# Altium schematic symbol library Universal Device.SchLib: 2 symbols
Pins are listed as number, name and electrical type; pins without a type are passive.

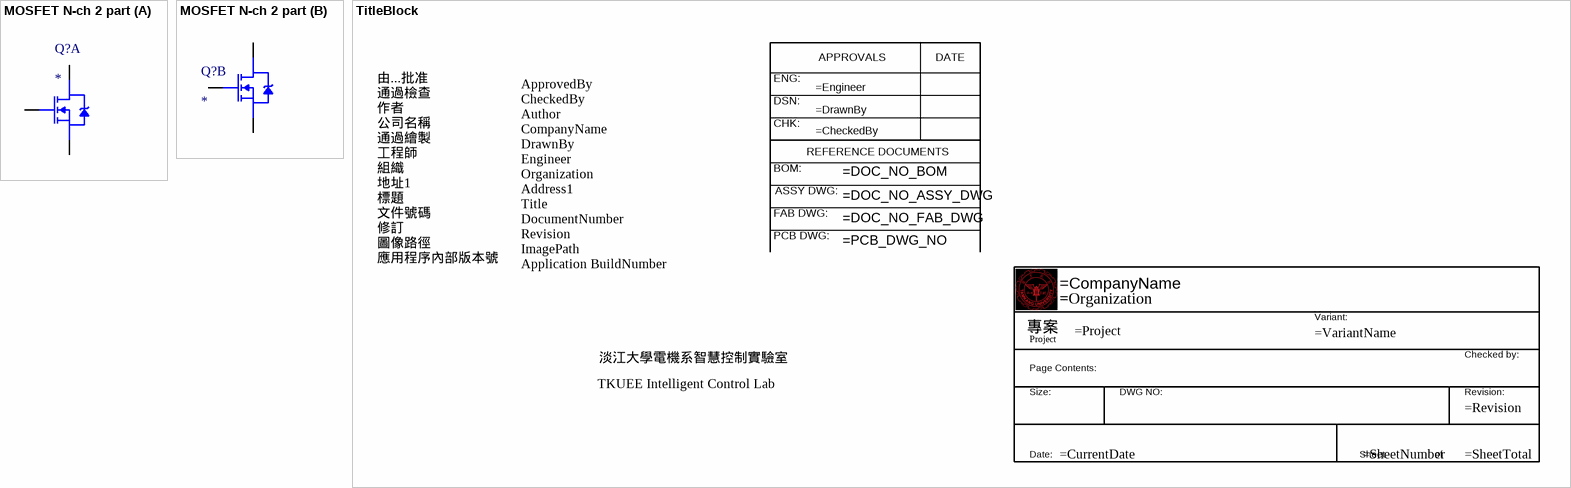
[diagram p0: symbols MOSFET N-ch 2 part to TitleBlock]

## MOSFET N-ch 2 part
designator Q?
footprint PCBComponent_1; pin to pad 4>4+5 7>7+8
part A pins: 1 S1, 2 G1, 5 D1
part B pins: 3 S2, 4 G2, 7 D2

## TitleBlock
designator TitleBlock  (value not drawn)
text: APPROVALS; DATE; ENG:; DSN:; CHK:; REFERENCE DOCUMENTS; BOM:; ASSY DWG:; FAB DWG:; PCB DWG:; 由...批准 / 通過檢查 / 作者 / 公司名稱 / 通過繪製 / 工程師 / 組織 / 地址1 / 標題 / 文件號碼 / 修訂 / 圖像路徑 / 應用程序內部版本號; ApprovedBy / CheckedBy / Author / CompanyName / DrawnBy / Engineer / Organization / Address1 / Title / DocumentNumber / Revision / ImagePath / Application BuildNumber; Variant:; 專案; Project; 淡江大學電機系智慧控制實驗室; Checked by:; Page Contents:; TKUEE Intelligent Control Lab; Size:; DWG NO:; Revision:; Date:; Sheet; of